# Altium footprint library ABM8-40.PCBLIB: 1 footprints
Each footprint in its own frame and in the unit in brackets; x right, y up, seen from the top. Pads: shape width x height; smd on the part's side, far side on the other; paste and mask are expansions set on the pad; w line width, h text height; cw(c..) or ccw(c..) is an arc to the next point about the centre after c.
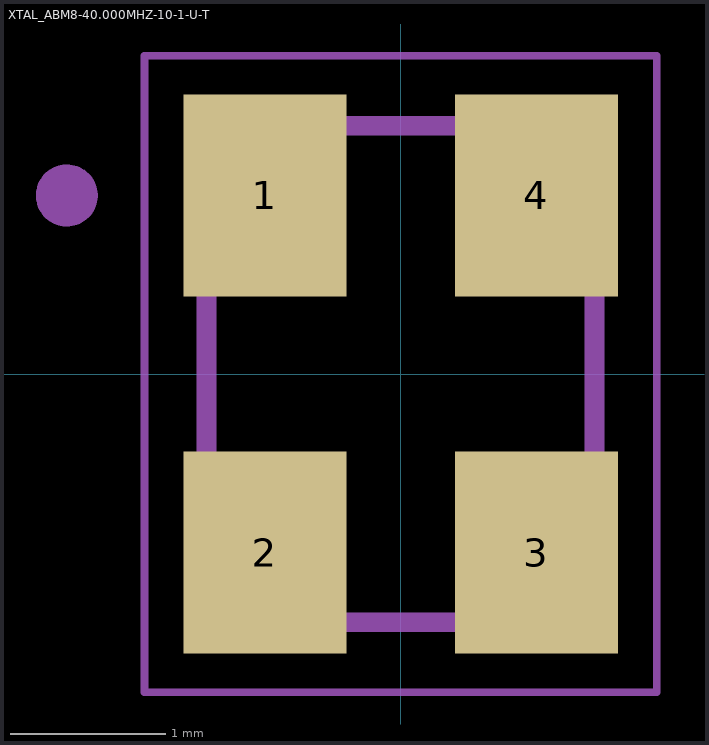
[diagram p0: the footprint, top view; thin cyan lines are the x and y axes]

## XTAL_ABM8-40.000MHZ-10-1-U-T [mm]
pads (4):
  rect 1.05x1.3 smd: 1(-0.875,1.15) 2(-0.875,-1.15) 3(0.875,-1.15) 4(0.875,1.15)
Assembly Top:
  circle w0.2: c-2.15,1.15 r0.1
  lines w0.127: -1.25,-1.6 -1.25,1.6 1.25,1.6 1.25,-1.6 -1.25,-1.6
Mechanical 22:
  circle w0.2: c-2.15,1.15 r0.1
  lines w0.127: -1.25,-0.18 -1.25,0.18 ; 1.25,-0.18 1.25,0.18
Mechanical 30:
  lines w0.05: -1.65,-2.05 -1.65,2.05 1.65,2.05 1.65,-2.05 -1.65,-2.05